# Altium integrated library Rotary_Encoder.IntLib: 9 symbols
Pins are listed as number, name and electrical type; pins without a type are passive.

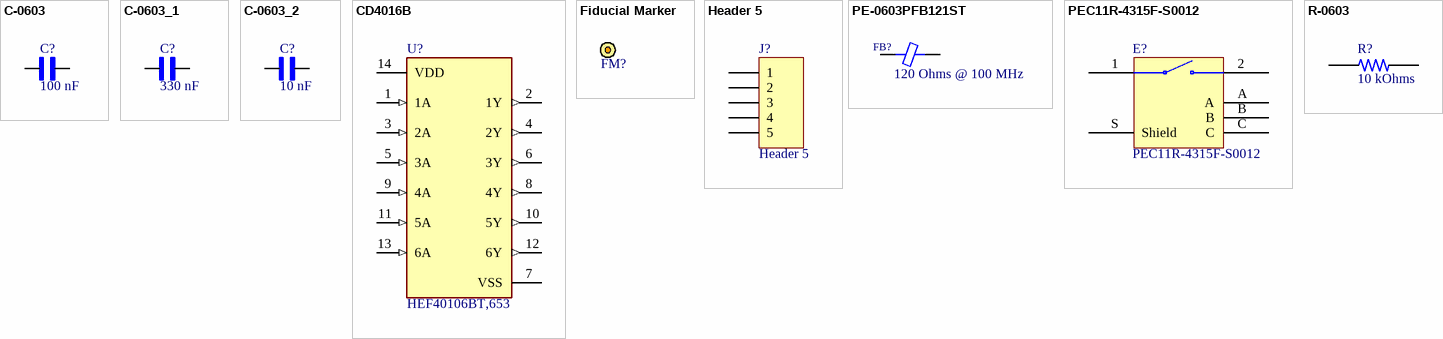
[diagram p0: symbols C-0603 to R-0603]

## C-0603
designator C?, comment 100 nF
Ceramic Capacitor 16V 0603 (1608 Metric); MP: C0603C104J4RAC; MF: KEMET; SnapEDA_Link: https://www.snapeda.com/parts/C0603C104J4RAC/KEMET/view-part/1763758/?ref=snap; Availability: Warning; Package: 0603 KEMET; Check_prices: https://www.snapeda.com/parts/C0603C104J4RAC/KEMET/view-part/1763758/?ref=eda; Value: *; Price: None
footprint C-0603
pins: 1, 2

## C-0603_1
designator C?, comment 330 nF
Ceramic Capacitor 16V 0603 (1608 Metric); MP: C0603C104J4RAC; MF: KEMET; SnapEDA_Link: https://www.snapeda.com/parts/C0603C104J4RAC/KEMET/view-part/1763758/?ref=snap; Availability: Warning; Package: 0603 KEMET; Check_prices: https://www.snapeda.com/parts/C0603C104J4RAC/KEMET/view-part/1763758/?ref=eda; Value: *; Price: None
footprint C-0603
pins: 1, 2

## C-0603_2
designator C?, comment 10 nF
Ceramic Capacitor 16V 0603 (1608 Metric); MP: C0603C104J4RAC; MF: KEMET; SnapEDA_Link: https://www.snapeda.com/parts/C0603C104J4RAC/KEMET/view-part/1763758/?ref=snap; Availability: Warning; Package: 0603 KEMET; Check_prices: https://www.snapeda.com/parts/C0603C104J4RAC/KEMET/view-part/1763758/?ref=eda; Value: *; Price: None
footprint C-0603
pins: 1, 2

## CD4016B
designator U?, comment HEF40106BT,653
IC INVERT SCHMITT 6CH 6-INP 14SO; RoHS Compliant: Yes
footprint FP-SOT108-1-IPC_A
footprint FP-SOT108-1-IPC_B
footprint FP-SOT108-1-MFG
footprint FP-SOT108-1-IPC_C
pins: 1 1A (in), 2 1Y (out), 3 2A (in), 4 2Y (out), 5 3A (in), 6 3Y (out), 7 VSS (power), 8 4Y (out), 9 4A (in), 10 5Y (out), 11 5A (in), 12 6Y (out), 13 6A (in), 14 VDD (power)

## Fiducial Marker
designator FM?, comment FM  (value not drawn)
Fiducial Marker
footprint Fiducial_Marker_1mm (Fiducial Marker)
footprint Fiducial_Marker_2mm (Fiducial Marker)
footprint Fiducial_Marker_3mm (Fiducial Marker)

## Header 5
designator J?
Header, 5-Pin; LatestRevisionDate: 17-Jul-2002; LatestRevisionNote: Re-released for DXP Platform.; Publisher: Altium Limited
footprint HDR1X5 (Connector; Header; 5 Position)
signal-integrity model Connector
pins: 1, 2, 3, 4, 5

## PE-0603PFB121ST
designator FB?, comment 120 Ohms @ 100 MHz
FERRITE BEAD 120 OHM 0603 1LN; Part Number: PE-0603PFB121ST; Manufacturer: Pulse Electronics Network; Current Rating (Max): 2A; DC Resistance (DCR) (Max): 50mOhm; Filter Type: Power Line; Number of Lines: 1; XjtagCategorisation: Ferrite Bead.pdd; ComponentLink1Description: Datasheet; ComponentLink1URL: https://productfinder.pulseeng.com/doc_type/WEB301/doc_num/WC706/doc_part/WC706.pdf; ComponentLink2Description: DigiKey Link; ComponentLink2URL: https://www.digikey.com/en/products/detail/pulse-electronics-network/PE-0603PFB121ST/5050544; Device Package: 0603 (1608 Metric); Height (Max): 0.041" (1.05mm); Impedance @ Frequency: 120 Ohms @ 100 MHz; LastUpdated: 19-09-2022 13:44:01; Lifecycle Status: Active; Minimum Order: 1; Mounting Type: Surface Mount; Operating Temperature: -40°C ~ 105°C; Package / Case: 0603 (1608 Metric); Packaging: TapeAndReel; PartId: 591; Part Status: Active; Price: 0.01; Series: PFB; Size / Dimension: 0.063" L x 0.032" W (1.60mm x 0.80mm); Supplier 1: DigiKey; Supplier Part Number 1: 553-2387-6-ND; Value: 120 Ohms @ 100 MHz
footprint FER 0603_1608
pins: 1, 2

## PEC11R-4315F-S0012
designator E?
ROTARY ENCODER MECHANICAL 12PPR; Manufacturer 1: Bourns; Manufacturer: Bourns Inc.; Output Type: Quadrature (Incremental); Built in Switch: Yes; Number of Channels: 2; Pulses per Revolution: 12; Capacitance: 4315F; Actuator Type: 6mm Dia Flatted End; Rotational Life (Cycles Min): 30K; Supplier 1: DigiKey; Manufacturer Part Number 1: PEC11R-4315F-S0012; Stock 1: 453; Pricing 1: 1=1.91000, 10=1.68200, 25=1.50800, 50=1.45000, 100=1.39200, 250=1.33400, 500=1.10200, 1000=1.04400, 5000=0.87000 (USD); RoHS: Yes; Mount: Through Hole,Panel,PCB; Min Operating Temperature: -30°C; Max Operating Temperature: 70°C; Termination: PC Pin; Packaging: Unknown; Package Quantity: 75; Encoder Type: Mechanical; Detent: Yes; Orientation: Vertical; Length: 21.5mm; Height: 13.4mm; Width: 12.5mm; ComponentLink1URL: https://www.bourns.com/docs/Product-Datasheets/PEC11R.pdf; ComponentLink1Description: Datasheet; ComponentLink2URL: http://digikey.com/product-detail/en/bourns-inc/PEC11R-4315F-S0012/PEC11R-4315F-S0012-ND/4699232; ComponentLink2Description: DigiKey Link; Part Number: PEC11R-4315F-S0012; LastUpdated: 25-06-2020 15:43:12; Lifecycle Status: Active; Minimum Order: 1; Mounting Type: Panel, PCB Through Hole; Part Status: Active; Price: 1.91; Series: PEC11R; Supplier Part Number 1: PEC11R-4315F-S0012-ND; Termination Style: PC Pin
footprint BOURNS PEC11R-4315F-S0012
pins: 1, 2, A, B, C, S Shield

## R-0603
designator R?, comment 10 kOhms
0603; MP: 2-1623703-0; Power_Rating: .1 W; Value: 10K; Tolerance: 1%; MF: TE Connectivity; XjtagCategorisation: pull-resistor.pdd; Package: 0603; Price: None; Resistance: 10K; Check_prices: https://www.snapeda.com/parts/2-1623703-0/TE%20Connectivity/view-part/2213192/?ref=eda; SnapEDA_Link: https://www.snapeda.com/parts/2-1623703-0/TE%20Connectivity/view-part/2213192/?ref=snap; Availability: Warning
footprint R-0603
pins: 1, 2